# EAGLE library part SPI_MEMORY (library PATSKO)
SPI EEPROM/FRAM/Flash Memory Footprint compatible: M25PE - Flash memory - Micron/ST MB85RS, FM25 - FRAM 25xx - EEPROM
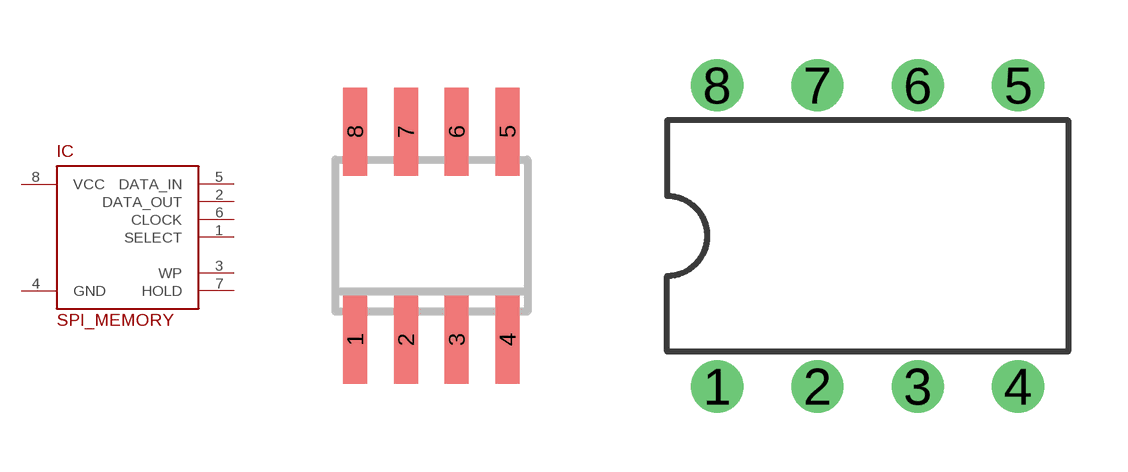
[diagram p1: symbol with the pads of SOIC08; footprints SOIC08, DIL08]

Designator prefix IC

## SPI_MEMORY-SOIC  [SOIC08]
1  SELECT  in
2  DATA_OUT  out
3  WP  in
4  GND  pwr
5  DATA_IN  in
6  CLOCK  in
7  HOLD  in
8  VCC  pwr

## SPI_MEMORY-DIP  [DIL08]
Pads as for SOIC08

## Footprint SOIC08 (pad centres in mm)
Small Outline Package 8 NS Package M08A
smd 0.6 x 2.2: 1 -1.905,-2.6; 2 -0.635,-2.6; 3 0.635,-2.6; 4 1.905,-2.6; 5 1.905,2.6; 6 0.635,2.6; 7 -0.635,2.6; 8 -1.905,2.6

## Footprint DIL08 (pad centres in mm)
Dual In Line Package
drill 0.813 pad 1.27: 1 -3.81,-3.81; 2 -1.27,-3.81; 3 1.27,-3.81; 4 3.81,-3.81; 5 3.81,3.81; 6 1.27,3.81; 7 -1.27,3.81; 8 -3.81,3.81